# Altium schematic symbol library Wireless Modules.SchLib: 3 symbols
Pins are listed as number, name and electrical type; pins without a type are passive.

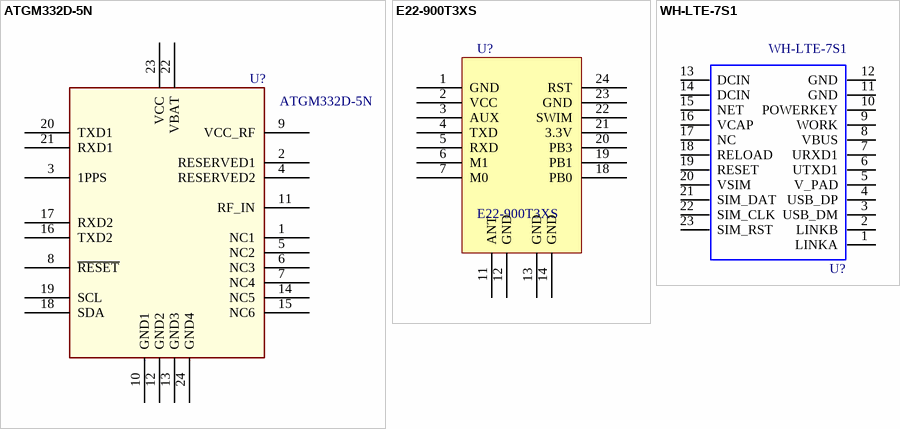
[diagram p0: symbols ATGM332D-5N to WH-LTE-7S1]

## ATGM332D-5N
designator U?
GPS Module.
footprint ATGM332D-5N
pins: 1 NC1, 2 RESERVED1, 3 1PPS, 4 RESERVED2, 5 NC2, 6 NC3, 7 NC4, 8 ~{RESET}, 9 VCC_RF, 10 GND1, 11 RF_IN, 12 GND2, 13 GND3, 14 NC5, 15 NC6, 16 TXD2, 17 RXD2, 18 SDA, 19 SCL, 20 TXD1, 21 RXD1, 22 VBAT, 23 VCC, 24 GND4

## E22-900T3XS
designator U?
Ebyte Lora module.
footprint PE22-900T3XS (40.5mm*25mm*3.80mm-S)
pins: 1 GND, 2 VCC, 3 AUX, 4 TXD, 5 RXD, 6 M1, 7 M0, 11 ANT, 12 GND, 13 GND, 14 GND, 18 PB0, 19 PB1, 20 PB3, 21 3.3V, 22 SWIM, 23 GND, 24 RST

## WH-LTE-7S1
designator U?
4G LTE module. CAT1; PCB DECAL: WH-LTE-7S1
footprint USR-GPRS232-7S3_LIB_V1.0
pins: 1 LINKA, 2 LINKB, 3 USB_DM, 4 USB_DP, 5 V_PAD, 6 UTXD1, 7 URXD1, 8 VBUS, 9 WORK, 10 POWERKEY, 11 GND, 12 GND, 13 DCIN, 14 DCIN, 15 NET, 16 VCAP, 17 NC, 18 RELOAD, 19 RESET, 20 VSIM, 21 SIM_DAT, 22 SIM_CLK, 23 SIM_RST